# Altium integrated library Oscillators.IntLib: 2 symbols
Pins are listed as number, name and electrical type; pins without a type are passive.

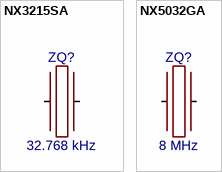
[diagram p0: symbols NX3215SA to NX5032GA]

## NX3215SA
designator ZQ?, comment 32.768 kHz
32.768 кГц, 20ppm, 7пФ, 70кОм, -40...+85°C, SMD 3.2*1.5*0.8мм, Кварцевый резонатор
footprint NX3215SA
pins: 0, 1

## NX5032GA
designator ZQ?, comment 8 МHz
8 МГц, 30/20ppm, 8пФ, -40...+85°C, SMD 5.0*3.2*1.3мм, Кварцевый резонатор
footprint NX5032GA
pins: 0, 1